# Altium schematic symbol library ESC_Driver.SchLib: 1 symbol
Pins are listed as number, name and electrical type; pins without a type are passive.

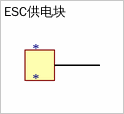
[diagram p0: symbol ESC供电块]

## ESC供电块
designator *
footprint ESC供电块
pins: 1